# Altium schematic symbol library Diode SOD-223.SchLib: 1 symbol
Pins are listed as number, name and electrical type; pins without a type are passive.

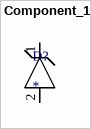
[diagram p0: symbol Component_1]

## Component_1
designator D?
footprint Diode SOD-923
pins: 1, 2